# Altium footprint library ROBOCAM_1.PcbLib: 116 footprints (part 5 of 8)
Each footprint in its own frame and in the unit in brackets; x right, y up, seen from the top. Pads: shape width x height; smd on the part's side, far side on the other; paste and mask are expansions set on the pad; w line width, h text height; cw(c..) or ccw(c..) is an arc to the next point about the centre after c.
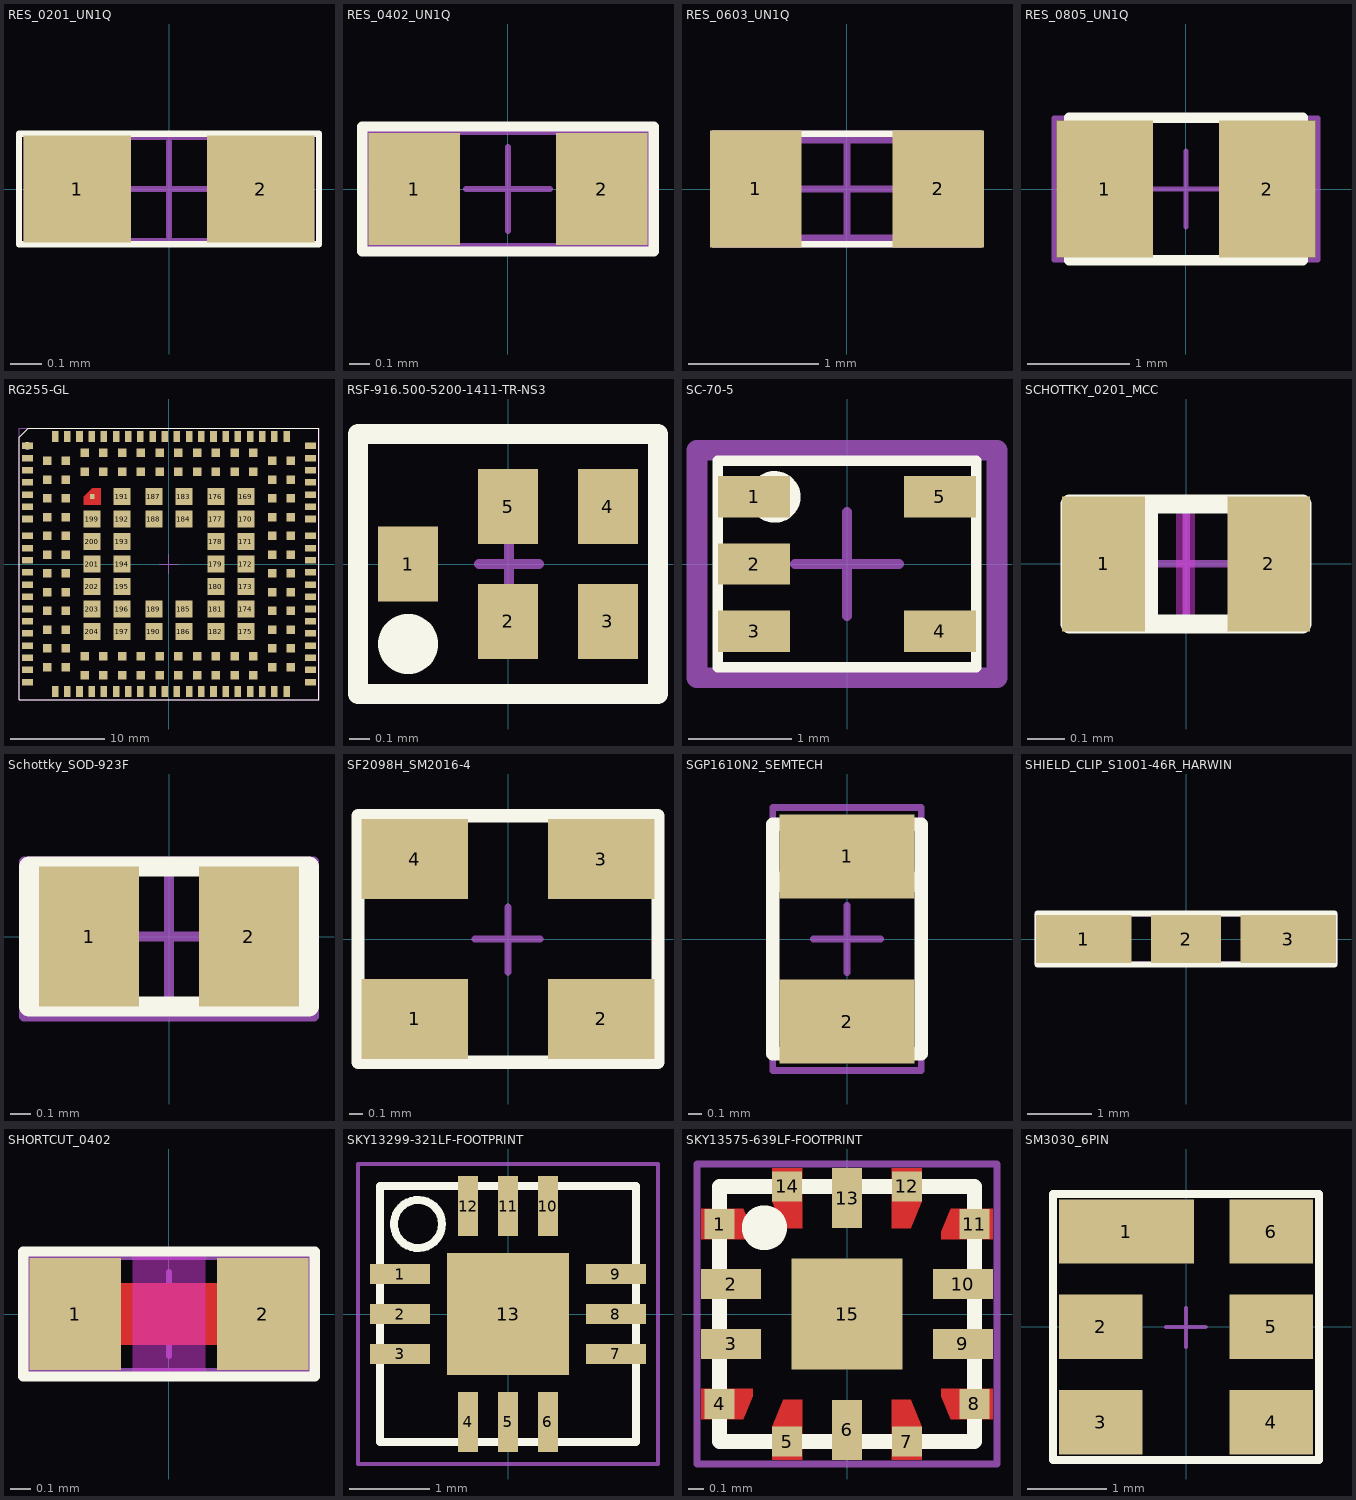
[diagram p4: the footprints below, top view; thin cyan lines are the x and y axes]

## RES_0201_UN1Q [mm] "Chip Resistor, 0.6x0.3mm"
height 0.3
pads (2):
  rect 0.34x0.34 smd mask+0.05: 1(-0.29,0) 2(0.29,0)
Top Overlay:
  lines w0.02: -0.475,-0.175 0.475,-0.175 0.475,0.175 -0.475,0.175 -0.475,-0.175
Top Courtyard:
  lines w0.02: -0.15,0 0.15,0 ; 0,-0.15 0,0.15 ; -0.45,-0.165 0.45,-0.165 0.45,0.165 -0.45,0.165 -0.45,-0.165
Top Designator:
  text ".Designator" at -7.618,-0.508 h1.52
3D body "RC0201JR-071KL.STEP": height 0.26, standoff 0, extent -0.3,-0.15 0.3,0.15

## RES_0402_UN1Q [mm] "Chip Resistor, 1.0x0.5mm"
height 0.4
pads (2):
  rect 0.44x0.54 smd paste+0 mask+0.05: 1(-0.45,0) 2(0.45,0)
Top Overlay:
  lines w0.05: -0.7,-0.3 -0.7,0.3 0.7,0.3 0.7,-0.3 -0.7,-0.3
Top Courtyard:
  lines w0.03: -0.2,0 0.2,0 ; 0,-0.2 0,0.2 ; -0.675,-0.275 0.675,-0.275 0.675,0.275 -0.675,0.275 -0.675,-0.275
Top Designator:
  text ".Designator" at -7.618,-0.508 h1.52
3D body "RC0402JR-07100RL.STEP": height 0.4, standoff 0, extent -0.5,-0.25 0.5,0.25

## RES_0603_UN1Q [mm] "Chip Resistor, 1.6x0.8mm"
height 0.6
pads (2):
  rect 0.7x0.9 smd mask+0.06: 1(-0.7,0) 2(0.7,0)
Top Overlay:
  lines w0.05: -1.025,-0.425 1.025,-0.425 1.025,0.425 -1.025,0.425 -1.025,-0.425
Top 3D Body:
  lines w0.1: -0.85,-0.4 -0.85,0.4 0.85,0.4 0.85,-0.4 -0.85,-0.4
Top Courtyard:
  lines w0.05: -0.35,0 0.35,0 ; 0,-0.375 0,0.375 ; -1.025,-0.425 -1.025,0.425 1.025,0.425 1.025,-0.425 -1.025,-0.425
Top Designator:
  text ".Designator" at 7.618,0.508 h1.52
3D body "0603_Panasonic.STEP": height 0.45, standoff 0, extent -0.8,-0.4 0.8,0.4

## RES_0805_UN1Q [mm] "Resistor 0805"
height 0.6
pads (2):
  rect 0.95x1.35 smd paste+0 mask+0.06: 1(-0.8,0) 2(0.8,0)
Top Overlay:
  lines w0.1: -1.15,-0.7 -1.15,0.7 1.15,0.7 1.15,-0.7 -1.15,-0.7
Top Courtyard:
  lines w0.05: -0.375,0 0.375,0 ; 0,-0.375 0,0.375 ; -1.3,-0.7 1.3,-0.7 1.3,0.7 -1.3,0.7 -1.3,-0.7
Top Designator:
  text ".Designator" at -7.618,-0.508 h1.52
3D body: height 0.7, standoff 0, extent -1.1,-0.675 1.1,0.675

## RG255-GL [mm] "5G module"
height 3.05
pads (204):
  rect 1.2x0.7 smd paste-2 mask+0.05: 1(-15.1,12.6) 2(-15.1,11.3) 3(-15.1,10) 4(-15.1,8.7) 5(-15.1,7.4) 6(-15.1,6.1) 7(-15.1,4.8) 8(-15.1,3) 9(-15.1,1.7) 10(-15.1,0.4) 11(-15.1,-0.9) 12(-15.1,-2.2) 13(-15.1,-3.5) 14(-15.1,-4.8) 15(-15.1,-6.1) 16(-15.1,-7.4) 17(-15.1,-8.7) 18(-15.1,-10) 19(-15.1,-11.3) 20(-15.1,-12.6) 41(15.1,-12.6) 42(15.1,-11.3) 43(15.1,-10) 44(15.1,-8.7) 45(15.1,-7.4) 46(15.1,-6.1) 47(15.1,-4.8) 48(15.1,-3.5) 49(15.1,-2.2) 50(15.1,-0.9) 51(15.1,0.4) 52(15.1,1.7) 53(15.1,3) 54(15.1,4.8) 55(15.1,6.1) 56(15.1,7.4) 57(15.1,8.7) 58(15.1,10) 59(15.1,11.3) 60(15.1,12.6)
  rect 0.7x1.2 smd paste-2 mask+0.05: 21(-12.15,-13.6) 22(-10.85,-13.6) 23(-9.55,-13.6) 24(-8.25,-13.6) 25(-6.95,-13.6) 26(-5.65,-13.6) 27(-4.35,-13.6) 28(-3.05,-13.6) 29(-1.75,-13.6) 30(-0.45,-13.6) 31(0.85,-13.6) 32(2.15,-13.6) 33(3.45,-13.6) 34(4.75,-13.6) 35(6.05,-13.6) 36(7.35,-13.6) 37(8.65,-13.6) 38(9.95,-13.6) 39(11.25,-13.6) 40(12.55,-13.6) 61(12.55,13.6) 62(11.25,13.6) 63(9.95,13.6) 64(8.65,13.6) 65(7.35,13.6) 66(6.05,13.6) 67(4.75,13.6) 68(3.45,13.6) 69(2.15,13.6) 70(0.85,13.6) 71(-0.45,13.6) 72(-1.75,13.6) 73(-3.05,13.6) 74(-4.35,13.6) 75(-5.65,13.6) 76(-6.95,13.6) 77(-8.25,13.6) 78(-9.55,13.6) 79(-10.85,13.6) 80(-12.15,13.6)
  rect 0.9x0.9 smd paste-0.054 mask+0.05: 81(-13,11) 82(-11,11) 83(-13,9) 84(-11,9) 85(-13,7) 86(-11,7) 87(-13,5) 88(-11,5) 89(-13,3) 90(-11,3) 91(-13,1) 92(-11,1) 93(-13,-1) 94(-11,-1) 95(-13,-3) 96(-11,-3) 97(-13,-5) 98(-11,-5) 99(-13,-7) 100(-11,-7) 101(-13,-9) 102(-11,-9) 103(-13,-11) 104(-11,-11) 105(-9,-11.85) 106(-9,-9.85) 107(-7,-11.85) 108(-7,-9.85) 109(-5,-11.85) 110(-5,-9.85) 111(-3,-11.85) 112(-3,-9.85) 113(-1,-11.85) 114(-1,-9.85) 115(1,-11.85) 116(1,-9.85) 117(3,-11.85) 118(3,-9.85) 119(5,-11.85) 120(5,-9.85) 121(7,-11.85) 122(7,-9.85) 123(9,-11.85) 124(9,-9.85) 125(13,-11) 126(11,-11) 127(13,-9) 128(11,-9) 129(13,-7) 130(11,-7) 131(13,-5) 132(11,-5) 133(13,-3) 134(11,-3) 135(13,-1) 136(11,-1) 137(13,1) 138(11,1) 139(13,3) 140(11,3) 141(13,5) 142(11,5) 143(13,7) 144(11,7) 145(13,9) 146(11,9) 147(13,11) 148(11,11) 149(9,11.85) 150(9,9.85) 151(7,11.85) 152(7,9.85) 153(5,11.85) 154(5,9.85) 155(3,11.85) 156(3,9.85) 157(1,11.85) 158(1,9.85) 159(-1,11.85) 160(-1,9.85) 161(-3,11.85) 162(-3,9.85) 163(-5,11.85) 164(-5,9.85) 165(-7,11.85) 166(-7,9.85) 167(-9,11.85) 168(-9,9.85)
  rect 1.8x1.8 smd paste-2 mask+0.05: 169(8.2,7.2) 170(8.2,4.8) 171(8.2,2.4) 172(8.2,0) 173(8.2,-2.4) 174(8.2,-4.8) 175(8.2,-7.2) 176(5,7.2) 177(5,4.8) 178(5,2.4) 179(5,0) 180(5,-2.4) 181(5,-4.8) 182(5,-7.2) 183(1.6,7.2) 184(1.6,4.8) 185(1.6,-4.8) 186(1.6,-7.2) 187(-1.6,7.2) 188(-1.6,4.8) 189(-1.6,-4.8) 190(-1.6,-7.2) 191(-5,7.2) 192(-5,4.8) 193(-5,2.4) 194(-5,0) 195(-5,-2.4) 196(-5,-4.8) 197(-5,-7.2) 199(-8.2,4.8) 200(-8.2,2.4) 201(-8.2,0) 202(-8.2,-2.4) 203(-8.2,-4.8) 204(-8.2,-7.2)
  rect 0.5x0.5 smd paste-1 mask+0: 198(-8.2,7.2)
Top Layer:
  region: -7.3,6.3 -9.1,6.3 -9.1,7.2 -8.2,8.1 -7.3,8.1
Top Overlay:
  circle w0.4: c-15.1,12.6 r0.2
  lines w0.1: -16,-14.5 -16,13.5 -15,14.5 16,14.5 16,-14.5 -16,-14.5
Top Paste:
  drawing of 223 lines, arcs and shapes, not listed
Top Courtyard:
  lines w0.05: -1,0 1,0 ; 0,-1 0,1 ; -16,-14.5 16,-14.5 16,14.5 -16,14.5 -16,-14.5
Top Designator:
  text ".Designator" at 7.618,0.508 h1.52
3D body "step_temp.STEP": height 2.6, standoff 0, extent -16,-14.5 16,14.5

## RSF-916.500-5200-1411-TR-NS3 [mm] "RSF-916.500-5200-1411-TR-NS3"
height 0.5
pads (5):
  rect 0.3x0.375 smd paste+0 mask+0.05: 1(-0.5,0) 2(0,-0.288) 3(0.5,-0.288) 4(0.5,0.288) 5(0,0.288)
Top Overlay:
  circle w0.2: c-0.5,-0.4 r0.05
  lines w0.1: -0.75,-0.65 0.75,-0.65 0.75,0.65 -0.75,0.65 -0.75,-0.65
Top Courtyard:
  lines w0.05: -0.146,0 0.154,0 ; 0.004,-0.15 0.004,0.15 ; -0.75,-0.65 0.75,-0.65 0.75,0.65 -0.75,0.65 -0.75,-0.65
Top Designator:
  text ".Designator" at -7.618,-0.508 h1.52
3D body: height 0.61, standoff 0.55, extent -0.555,-0.48 -0.295,-0.22
3D body: height 0.6, standoff 0, extent -0.7,-0.6 0.7,0.6

## SC-70-5 [mm] "SC-70-5, 5-TSSOP, SOT-353"
height 1.1
pads (5):
  rect 0.7x0.4 smd: 1(-0.9,0.65) 2(-0.9,0) 3(-0.9,-0.65) 4(0.9,-0.65) 5(0.9,0.65)
Top Overlay:
  circle w0.25: c-0.7,0.65 r0.125
  lines w0.1: -1.25,-1 -1.25,1 1.25,1 1.25,-1 -1.25,-1
Top Courtyard:
  lines w0.05: -1.25,-1 -1.25,1 1.25,1 1.25,-1 -1.25,-1
Top Designator:
  text ".Designator" at 7.618,0.508 h1.52
Top Assembly:
  lines w0.2: -1.452,-1.1 1.452,-1.1 1.452,1.1 -1.452,1.1 -1.452,-1.1
Top Component Center:
  lines w0.1: -0.5,0 0.5,0 ; 0,-0.5 0,0.5
3D body "SC-70-5.STEP": height 1.1, standoff 0, extent -1.05,-1 1.05,1

## SCHOTTKY_0201_MCC [mm] "Schottkydiode, 0201, Micro Commercial Components"
height 0.37
pads (2):
  rect 0.22x0.36 smd mask+0.05: 1(-0.22,0) 2(0.22,0)
Top Layer keep-out:
  rectangle: -0.026,-0.18 0.024,0.18
Top Overlay:
  lines w0.05: -0.1,-0.16 -0.1,0.16 ; -0.31,-0.16 0.31,-0.16 0.31,0.16 -0.31,0.16 -0.31,-0.16
Top Courtyard:
  lines w0.02: -0.145,0 0.145,0 ; 0,-0.15 0,0.15 ; -0.31,-0.16 -0.31,0.16 0.31,0.16 0.31,-0.16 -0.31,-0.16
Top Designator:
  text ".Designator" at 7.618,0.508 h1.52
3D body "RB751S-40DP-TP.stp": height 0.31, standoff 0.01, extent -0.31,-0.16 0.31,0.16
3D body: height 0.32, standoff 0.05, extent -0.125,-0.15 -0.075,0.15

## Schottky_SOD-923F [mm] "SOD882BD 1.0 x 0.6 x 0.55 mm"
height 0.55
pads (2):
  rect 0.5x0.7 smd paste-0.015 mask+0.05: 1(-0.4,0) 2(0.4,0)
Top Overlay:
  lines w0.1: -0.35,-0.35 -0.35,0.35 ; -0.7,-0.35 -0.7,0.35 0.7,0.35 0.7,-0.35 -0.7,-0.35
Top Courtyard:
  lines w0.05: -0.3,0 0.3,0 ; 0,-0.3 0,0.3 ; -0.725,-0.4 -0.725,0.375 0.725,0.375 0.725,-0.4 -0.725,-0.4
Top Designator:
  text ".Designator" at -7.618,-0.52 h1.52
3D body: height 0.55, standoff 0, extent -0.5,-0.25 0.5,0.25

## SF2098H_SM2016-4 [mm] "SM2016-4, 1.6 x 2 4 pin"
height 0.75
pads (4):
  rect 0.8x0.6 smd paste+0 mask+0.05: 1(-0.7,-0.6) 2(0.7,-0.6) 3(0.7,0.6) 4(-0.7,0.6)
Top Overlay:
  circle w0.2: c-0.85,-0.65 r0.1
  lines w0.1: -1.125,-0.925 -1.125,0.925 1.125,0.925 1.125,-0.925 -1.125,-0.925
Top Courtyard:
  lines w0.05: -0.25,0 0.243,0 ; 0,-0.25 0,0.24 ; -1.125,-0.925 -1.125,0.925 1.125,0.925 1.125,-0.925 -1.125,-0.925
Top Designator:
  text ".Designator" at -7.618,-0.508 h1.52
3D body: height 0.75, standoff 0, extent -1.05,-0.85 1.05,0.85
3D body: height 0.76, standoff 0.7, extent -0.9,-0.7 -0.6,-0.4

## SGP1610N2_SEMTECH [mm] "DFN2"
height 0.55
pads (2):
  rect 1x0.625 smd paste+0 mask+0.07: 1(0,0.613) 2(0,-0.613)
Top Overlay:
  lines w0.1: -0.55,-0.85 0.55,-0.85 0.55,0.85 -0.55,0.85 -0.55,-0.85
  lines w0.15: -0.501,0.425 0.499,0.425
Top Courtyard:
  lines w0.05: -0.25,0 0.25,0 ; 0,-0.25 0,0.25 ; -0.55,-0.975 0.55,-0.975 0.55,0.975 -0.55,0.975 -0.55,-0.975
Top Designator:
  text ".Designator" at 7.618,0.508 h1.52
3D body "UCLAMP2271P.TNT.stp": height 0.65, standoff 0, extent -0.5,-0.863 0.5,0.863
3D body: height 0.65, standoff 0.64, extent -0.5,0.337 0.5,0.463

## SHIELD_CLIP_S1001-46R_HARWIN [mm] "EMC Shielding Clip"
height 2.1
pads (3):
  rect 1.5x0.75 smd paste-0.05 mask+0.05: 1(-1.6,0) 3(1.6,0)
  rect 1.1x0.75 smd paste-0.05 mask+0.05: 2(0,0)
Top Overlay:
  lines w0.1: -2.325,-0.4 -2.325,0.4 2.325,0.4 2.325,-0.4 -2.325,-0.4
Top Courtyard:
  lines w0.05: -0.25,0 0.25,0 ; 0,-0.25 0,0.25 ; -2.35,-0.375 -2.35,0.375 2.35,0.375 2.35,-0.375 -2.35,-0.375
Top Designator:
  text ".Designator" at -7.618,-0.508 h1.52
3D body "s1001-46.stp": height 0.8, standoff 0, extent -2.25,-0.35 2.25,0.35

## SHORTCUT_0402 [mm] "SHORTCUT 0402"
height 1.42
pads (2):
  rect 0.44x0.54 smd paste+0 mask+0.05: 1(-0.45,0) 2(0.45,0)
Top Layer:
  lines w0.3: -0.45,0 0.45,0
Top Layer keep-out:
  rectangle: -0.174,-0.275 0.176,0.275
Top Overlay:
  lines w0.05: -0.7,-0.3 0.7,-0.3 0.7,0.3 -0.7,0.3 -0.7,-0.3
Top Courtyard:
  lines w0.03: -0.2,0 0.2,0 ; 0,-0.2 0,0.2 ; -0.675,-0.275 -0.675,0.275 0.675,0.275 0.675,-0.275 -0.675,-0.275
Top Designator:
  text ".Designator" at 7.618,0.508 h1.52
3D body: height 0.03, standoff 0, extent -0.67,-0.27 0.67,0.27

## SKY13299-321LF-FOOTPRINT [mm] "QFN12, 3 x 3 mm Skyworks"
height 0.8
pads (13):
  rect 0.75x0.25 smd paste+0 mask+0.05: 1(-1.35,0.5) 2(-1.35,0) 3(-1.35,-0.5) 7(1.35,-0.5) 8(1.35,0) 9(1.35,0.5)
  rect 0.25x0.75 smd paste+0 mask+0.05: 4(-0.5,-1.35) 5(0,-1.35) 6(0.5,-1.35) 10(0.5,1.35) 11(0,1.35) 12(-0.5,1.35)
  rect 1.525x1.525 smd paste+0 mask+0.05: 13(0,0)
Top Overlay:
  circle w0.1: c-1.125,1.125 r0.3
  lines w0.1: -1.6,-1.6 -1.6,1.6 1.6,1.6 1.6,-1.6 -1.6,-1.6
Top Courtyard:
  lines w0.05: -1.875,-1.875 1.875,-1.875 1.875,1.875 -1.875,1.875 -1.875,-1.875
Top Designator:
  text ".Designator" at 7.618,0.508 h1.52
3D body: height 0.77, standoff 0.7, extent -1.3,0.95 -0.9,1.35
3D body "SKY13299-321LF.stp": height 0.8, standoff 0, extent -1.55,-1.55 1.55,1.55

## SKY13575-639LF-FOOTPRINT [mm] "QFN14 SKYWORKS"
height 0.5
pads (15):
  rect 0.2x0.2 smd paste-1 mask+0: 1(-0.85,0.6) 4(-0.85,-0.6) 5(-0.4,-0.85) 7(0.4,-0.85) 8(0.85,-0.6) 11(0.85,0.6) 12(0.4,0.85) 14(-0.4,0.85)
  rect 0.4x0.2 smd paste+0 mask+0.05: 2(-0.772,0.2) 3(-0.772,-0.2) 9(0.772,-0.2) 10(0.772,0.2)
  rect 0.2x0.4 smd paste+0 mask+0.05: 6(0,-0.772) 13(0,0.772)
  rect 0.74x0.74 smd paste+0 mask+0.05: 15(0,0)
Top Layer:
  region: 0.972,-0.7 0.691,-0.7 0.627,-0.548 0.627,-0.5 0.972,-0.5
  region: -0.3,-0.972 -0.5,-0.972 -0.5,-0.752 -0.425,-0.572 -0.3,-0.572
  region: 0.5,-0.752 0.5,-0.972 0.3,-0.972 0.3,-0.572 0.425,-0.572
  region: 0.5,0.752 0.425,0.572 0.3,0.572 0.3,0.972 0.5,0.972
  region: -0.3,0.572 -0.425,0.572 -0.5,0.752 -0.5,0.972 -0.3,0.972
  region: -0.627,-0.548 -0.691,-0.7 -0.972,-0.7 -0.972,-0.5 -0.627,-0.5
  region: -0.627,0.548 -0.627,0.5 -0.972,0.5 -0.972,0.7 -0.691,0.7
  region: 0.972,0.5 0.627,0.5 0.627,0.548 0.691,0.7 0.972,0.7
Top Overlay:
  circle w0.2: c-0.55,0.575 r0.05
  lines w0.1: -0.85,-0.85 -0.85,0.85 0.85,0.85 0.85,-0.85 -0.85,-0.85
Top Paste:
  region: 0.5,0.752 0.425,0.572 0.3,0.572 0.3,0.972 0.5,0.972
  region: 0.972,0.5 0.627,0.5 0.627,0.548 0.691,0.7 0.972,0.7
  region: -0.3,0.572 -0.425,0.572 -0.5,0.752 -0.5,0.972 -0.3,0.972
  region: -0.3,-0.972 -0.5,-0.972 -0.5,-0.752 -0.425,-0.572 -0.3,-0.572
  region: 0.5,-0.752 0.5,-0.972 0.3,-0.972 0.3,-0.572 0.425,-0.572
  region: -0.627,-0.548 -0.691,-0.7 -0.972,-0.7 -0.972,-0.5 -0.627,-0.5
  region: -0.627,0.548 -0.627,0.5 -0.972,0.5 -0.972,0.7 -0.691,0.7
  region: 0.972,-0.7 0.691,-0.7 0.627,-0.548 0.627,-0.5 0.972,-0.5
Top Courtyard:
  lines w0.05: -1,-1 -1,1 1,1 1,-1 -1,-1
Top Designator:
  text ".Designator" at -7.618,-0.508 h1.52
3D body: height 0.44, standoff 0.34, extent -0.7,0.5 -0.5,0.7
3D body "QFN12_4x3_SKY13575_SKY.step": height 0.43, standoff 0, extent -0.8,-0.8 0.8,0.8

## SM3030_6PIN [mm] "3x3mm 6 pin"
height 1.4
pads (6):
  rect 1.7x0.81 smd paste+0 mask+0.05: 1(-0.75,1.2)
  rect 1.05x0.81 smd paste+0 mask+0.05: 2(-1.075,0) 3(-1.075,-1.2) 4(1.075,-1.2) 5(1.075,0) 6(1.075,1.2)
Top Overlay:
  circle w0.2: c-1.156,1.146 r0.1
  lines w0.1: -1.675,-1.675 -1.675,1.675 1.675,1.675 1.675,-1.675 -1.675,-1.675
Top 3D Body:
  circle w0.2: c-1.156,1.146 r0.1
Top Courtyard:
  lines w0.05: -0.25,0 0.243,0 ; 0,-0.25 0,0.24 ; -1.65,-1.65 -1.65,1.65 1.65,1.65 1.65,-1.65 -1.65,-1.65
Top Designator:
  text ".Designator" at -7.618,-0.508 h1.52
3D body: height 1.4, standoff 0, extent -1.575,-1.575 1.575,1.575
3D body: height 1.41, standoff 0, extent -1.356,0.946 -0.956,1.346